# Altium footprint library XTAL.PcbLib: 19 footprints (part 2 of 2)
Each footprint in its own frame and in the unit in brackets; x right, y up, seen from the top. Pads: shape width x height; smd on the part's side, far side on the other; paste and mask are expansions set on the pad; w line width, h text height; cw(c..) or ccw(c..) is an arc to the next point about the centre after c.
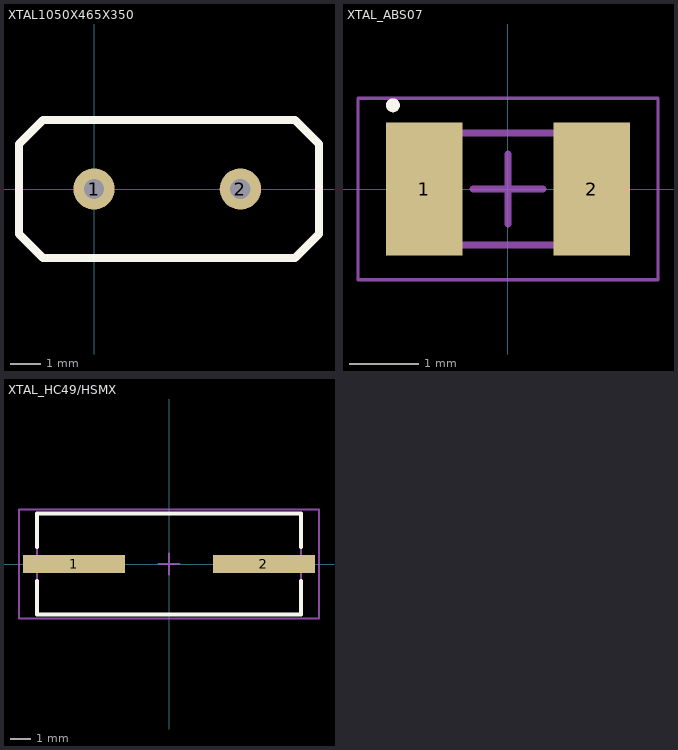
[diagram p1: the footprints below, top view; thin cyan lines are the x and y axes]

## XTAL1050X465X350 [mm]
pads (2):
  round 1.38 hole 0.68: 1(0,0) 2(4.88,0)
Top Overlay:
  lines w0.254: -2.5,-1.5 -1.7,-2.3 6.7,-2.3 7.5,-1.5 7.5,1.5 6.7,2.3 2.5,2.3 -1.7,2.3 -2.5,1.5 -2.5,-1.5
3D body: height 3.5, standoff 0, extent -2.5,-2.3 7.5,2.3

## XTAL_ABS07 [mm] "DFN, 2-Leads, Body 1,50x3,20mm, Pitch 2,40mm, IPC Low Density"
height 0.9
pads (2):
  rect 1.1x1.9 smd: 1(-1.2,0) 2(1.2,0)
Top Overlay:
  circle w0.1: c-1.65,1.2 r0.05
Border:
  lines w0.05: -2.15,-1.3 -2.15,1.3 2.15,1.3 2.15,-1.3 -2.15,-1.3
  lines w0.1: -0.5,0 0.5,0 ; 0,-0.5 0,0.5
3D:
  lines w0.1: -1.65,-0.8 1.65,-0.8 1.65,0.8 -1.65,0.8 -1.65,-0.8
3D body: height 0.9, standoff 0, extent -1.65,-0.8 1.65,0.8

## XTAL_HC49/HSMX [mm] "SODFL, 2-Leads, Body 4,90x13,40mm, IPC Low Density"
height 4.3
pads (2):
  rect 4.95x0.85 smd: 1(-4.6,0) 2(4.6,0)
Top Overlay:
  lines w0.2: -6.4,-0.825 -6.4,-2.45 6.4,-2.45 6.4,-0.825 ; -6.4,0.825 -6.4,2.45 6.4,2.45 6.4,0.825
TopAssy:
  lines w0.1: -6.4,-2.45 6.4,-2.45 6.4,2.45 -6.4,2.45 -6.4,-2.45
Border:
  lines w0.1: -0.5,0 0.5,0 ; 0,-0.5 0,0.5 ; -7.275,-2.65 -7.275,2.65 7.275,2.65 7.275,-2.65 -7.275,-2.65
3D body "User Library-Crystal HC49_US-SM.STEP": height 4.3, standoff 0, extent -6.4,-2.415 6.4,2.415